# EAGLE library part MBT3904DW1T1G (library STMBerry)
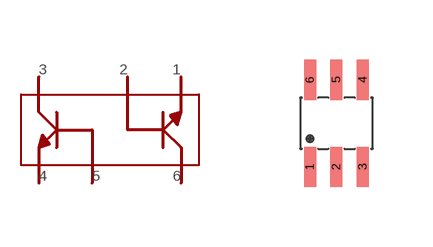
[diagram p4: symbol with the pads of SOT236; footprint SOT236]

Designator prefix -

## MBT3904DW1T1G  [SOT236]
1  1
2  2
3  3
4  4
5  5
6  6

## Footprint SOT236 (pad centres in mm)
smd 0.3 x 1: 1 -0.66,-1.09; 2 0,-1.09; 3 0.66,-1.09; 4 0.66,1.09; 5 0,1.09; 6 -0.66,1.09